# EAGLE library part CONN,8POS (library 0_MyLIB)
PIN HEADER
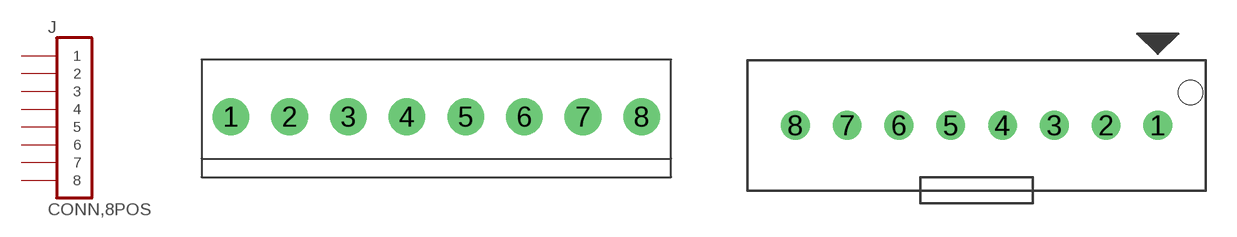
[diagram p4: symbol with the pads of 1X08-3.5MM; footprints 1X08-3.5MM, JST-XA-CONN-8POS]

Designator prefix J

## CONN,8POS-3.5MM  [1X08-3.5MM]
1  1  pas
2  2  pas
3  3  pas
4  4  pas
5  5  pas
6  6  pas
7  7  pas
8  8  pas

## CONN,8POSB08B-XASK-1-A  [JST-XA-CONN-8POS]
Pads as for 1X08-3.5MM

## Footprint 1X08-3.5MM (pad centres in mm)
drill 1 pad 2.184: 1 -12.25,0; 2 -8.75,0; 3 -5.25,0; 4 -1.75,0; 5 1.75,0; 6 5.25,0; 7 8.75,0; 8 12.25,0

## Footprint JST-XA-CONN-8POS (pad centres in mm)
drill 0.9: 1 8.89,0; 2 6.35,0; 3 3.81,0; 4 1.27,0; 5 -1.27,0; 6 -3.81,0; 7 -6.35,0; 8 -8.89,0
hole 1.2 at 10.49,1.6